# Altium footprint library MergenElektronik_Logics_GateDrivers.PcbLib: 1 footprints
Each footprint in its own frame and in the unit in brackets; x right, y up, seen from the top. Pads: shape width x height; smd on the part's side, far side on the other; paste and mask are expansions set on the pad; w line width, h text height; cw(c..) or ccw(c..) is an arc to the next point about the centre after c.
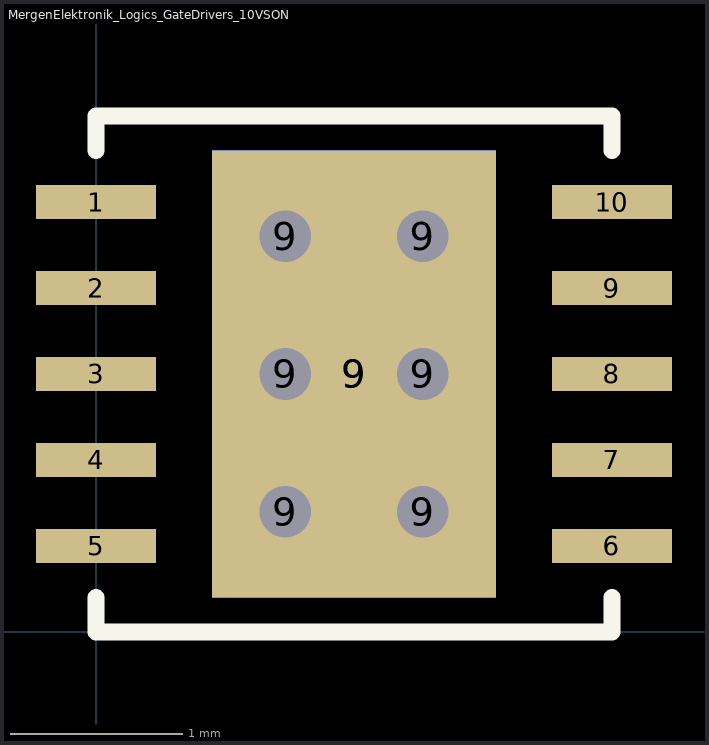
[diagram p0: the footprint, top view; thin cyan lines are the x and y axes]

## MergenElektronik_Logics_GateDrivers_10VSON [mm] "10-VSON 3x3"
pads (18):
  rect 0.7x0.2 smd: 1(0,2.5) 2(0,2) 3(0,1.5) 4(0,1) 5(0,0.5) 6(3,0.5) 7(3,1) 8(3,1.5) 9(3,2) 10(3,2.5)
  round 0.5 hole 0.3: 9(1.1,0.7) 9(1.1,1.5) 9(1.1,2.3) 9(1.9,0.7) 9(1.9,1.5) 9(1.9,2.3)
  rect 1.65x2.6 smd: 9(1.5,1.5)
  rect 1.65x2.6 smd far side: 9(1.5,1.5)
Top Overlay:
  lines w0.1: 0,0.2 0,0 3,0 3,0.2 ; 0,2.8 0,3 3,3 3,2.8
3D body "UCC27282DRCT.step": height 1, standoff 0, extent 0,0 3,3